# Altium footprint library ICfootprint3.PcbLib: 77 footprints (part 4 of 5)
Each footprint in its own frame and in the unit in brackets; x right, y up, seen from the top. Pads: shape width x height; smd on the part's side, far side on the other; paste and mask are expansions set on the pad; w line width, h text height; cw(c..) or ccw(c..) is an arc to the next point about the centre after c.
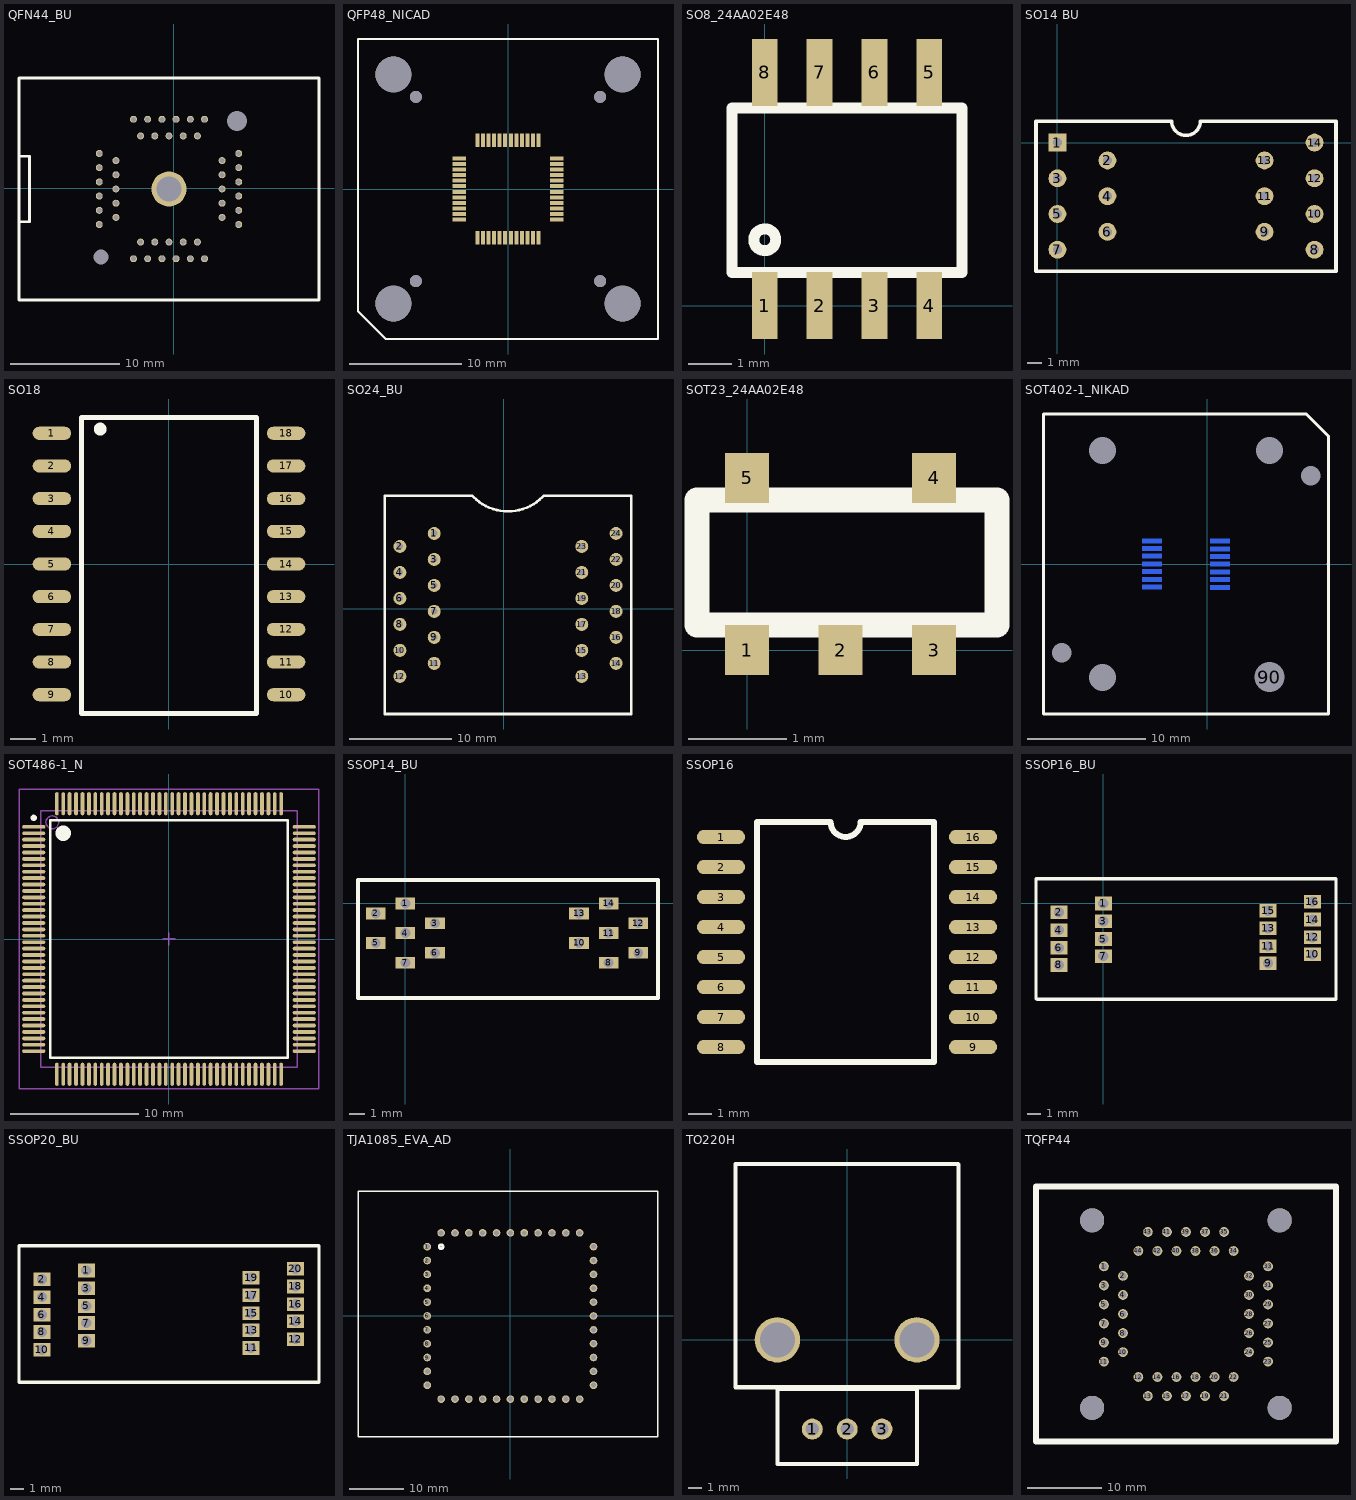
[diagram p3: the footprints below, top view; thin cyan lines are the x and y axes]

## QFN44_BU [mm] "QFN44 burn-in socket"
pads (47):
  round 0.635 hole 0.457: 1(-6.832,3.175) 2(-5.307,2.525) 3(-6.832,1.875) 4(-5.307,1.225) 5(-6.832,0.575) 6(-5.307,-0.075) 7(-6.832,-0.725) 8(-5.307,-1.375) 9(-6.832,-2.025) 10(-5.307,-2.675) 11(-6.832,-3.325) 12(-3.707,-6.45) 13(-3.057,-4.925) 14(-2.407,-6.45) 15(-1.757,-4.925) 16(-1.107,-6.45) 17(-0.457,-4.925) 18(0.193,-6.45) 19(0.843,-4.925) 20(1.493,-6.45) 21(2.143,-4.925) 22(2.793,-6.45) 23(5.918,-3.325) 24(4.393,-2.675) 25(5.918,-2.025) 26(4.393,-1.375) 27(5.918,-0.725) 28(4.393,-0.075) 29(5.918,0.575) 30(4.393,1.225) 31(5.918,1.875) 32(4.393,2.525) 33(5.918,3.175) 34(2.793,6.3) 35(2.143,4.775) 36(1.493,6.3) 37(0.843,4.775) 38(0.193,6.3) 39(-0.457,4.775) 40(-1.107,6.3) 41(-1.757,4.775) 42(-2.407,6.3) 43(-3.057,4.775) 44(-3.707,6.3)
  round 1 hole 1.4: ""(-6.682,-6.3)
  round 3.2 hole 2.26: ""(-0.457,-0.075)
  round 1 hole 1.8: ""(5.768,6.15)
Top Overlay:
  lines w0.254: -14.172,-3.075 -13.207,-3.075 -13.207,2.925 -14.172,2.925 ; -14.172,-10.235 13.258,-10.235 13.258,10.085 -14.172,10.085 -14.172,-10.235

## QFP48_NICAD [mm]
pads (56):
  rect 1.2x0.36 smd mask+0: 1(-4.35,2.75) 2(-4.35,2.25) 3(-4.35,1.75) 4(-4.35,1.25) 5(-4.35,0.75) 6(-4.35,0.25) 7(-4.35,-0.25) 8(-4.35,-0.75) 9(-4.35,-1.25) 10(-4.35,-1.75) 11(-4.35,-2.25) 12(-4.35,-2.75) 25(4.35,-2.75) 26(4.35,-2.25) 27(4.35,-1.75) 28(4.35,-1.25) 29(4.35,-0.75) 30(4.35,-0.25) 31(4.35,0.25) 32(4.35,0.75) 33(4.35,1.25) 34(4.35,1.75) 35(4.35,2.25) 36(4.35,2.75)
  rect 0.36x1.2 smd mask+0: 13(-2.75,-4.35) 14(-2.25,-4.35) 15(-1.75,-4.35) 16(-1.25,-4.35) 17(-0.75,-4.35) 18(-0.25,-4.35) 19(0.25,-4.35) 20(0.75,-4.35) 21(1.25,-4.35) 22(1.75,-4.35) 23(2.25,-4.35) 24(2.75,-4.35) 37(2.75,4.35) 38(2.25,4.35) 39(1.75,4.35) 40(1.25,4.35) 41(0.75,4.35) 42(0.25,4.35) 43(-0.25,4.35) 44(-0.75,4.35) 45(-1.25,4.35) 46(-1.75,4.35) 47(-2.25,4.35) 48(-2.75,4.35)
  round 3.2 hole 3.2 unplated mask+0: ""(-10.255,-10.255) ""(-10.255,10.255) ""(10.255,-10.255) ""(10.255,10.255)
  round 1.07 hole 1.07 unplated mask+0: ""(-8.255,-8.255) ""(-8.255,8.255) ""(8.255,-8.255) ""(8.255,8.255)
Top Overlay:
  lines w0.2: -13.43,-10.954 -10.954,-13.43 13.43,-13.43 13.43,13.43 -13.43,13.43 -13.43,-10.954

## SO8_24AA02E48 [mm] "2k EEPROM"
pads (8):
  rect 0.6x1.55 smd: 1(0,0) 2(1.27,0) 3(2.54,0) 4(3.81,0) 5(3.81,5.4) 6(2.54,5.4) 7(1.27,5.4) 8(0,5.4)
Top Overlay:
  circle w0.254: c0,1.524 r0.254
  lines w0.254: -0.762,0.762 4.572,0.762 4.572,4.572 -0.762,4.572 -0.762,0.762

## SO14 BU [mil] "SO14 burn-in socket"
pads (14):
  rect 50x50 hole 25: 1(0,0)
  round 50 hole 25: 2(140,-50) 3(0,-100) 4(140,-150) 5(0,-200) 6(140,-250) 7(0,-300) 8(720,-300) 9(580,-250) 10(720,-200) 11(580,-150) 12(720,-100) 13(580,-50) 14(720,0)
Top Overlay:
  lines w10: -60,-360 -60,40 -60,60 320,60 ccw(c360,60) 360,20 ccw(c360,60) 400,60 780,60 780,-360 -60,-360

## SO18 [mm] "SOIC, 18-Leads"
height 1.91
pads (18):
  oval 1.5x0.51 smd: 1(-4.55,5.08) 2(-4.55,3.81) 3(-4.55,2.54) 4(-4.55,1.27) 5(-4.55,0) 6(-4.55,-1.27) 7(-4.55,-2.54) 8(-4.55,-3.81) 9(-4.55,-5.08) 10(4.55,-5.08) 11(4.55,-3.81) 12(4.55,-2.54) 13(4.55,-1.27) 14(4.55,0) 15(4.55,1.27) 16(4.55,2.54) 17(4.55,3.81) 18(4.55,5.08)
Top Overlay:
  circle w0.25: c-2.675,5.243 r0.125
  lines w0.2: -3.4,-5.81 3.4,-5.81 ; -3.4,-5.8 -3.4,5.7 ; -3.4,5.69 3.4,5.69 ; 3.4,-5.8 3.4,5.7

## SO24_BU [mil] "SO24 burn-in socket"
pads (24):
  round 50 hole 25: 1(-268,290) 2(-400,240) 3(-268,190) 4(-400,140) 5(-268,90) 6(-400,40) 7(-268,-10) 8(-400,-60) 9(-268,-110) 10(-400,-160) 11(-268,-210) 12(-400,-260) 13(300,-260) 14(432,-210) 15(300,-160) 16(432,-110) 17(300,-60) 18(432,-10) 19(300,40) 20(432,90) 21(300,140) 22(432,190) 23(300,240) 24(432,290)
Top Overlay:
  lines w10: -459,-405 -459,435 -121.5,435 -116.5,430 ccw(c16,562.5) 148.5,430 153.5,435 491,435 491,-405 -459,-405

## SOT23_24AA02E48 [mm] "2k EEPROM"
pads (5):
  rect 0.45x0.51 smd mask+0.05: 1(0,0) 2(0.95,0) 3(1.9,0) 4(1.9,1.75) 5(0,1.75)
Top Overlay:
  lines w0.254: -0.508,0.254 2.54,0.254 2.54,1.524 -0.508,1.524 -0.508,0.254

## SOT402-1_NIKAD [mil]
pads (20):
  rect 65x15 smd far side: 1(44,76) 2(44,50.5) 3(44,24.9) 4(44,-0.7) 5(44,-26.3) 6(44,-51.9) 7(44,-77.5) 8(-184,-76.5) 9(-184,-50.9) 10(-184,-25.3) 11(-184,0.3) 12(-184,25.9) 13(-184,51.5) 14(-184,77)
  round 100 on Drill Drawing hole 100: 90(208,-377)
  round 100 on Drill Drawing hole 65: ""(-485,-295) ""(345,295)
  round 100 on Drill Drawing hole 90: ""(-348,-378) ""(-348,378) ""(208,378)
Top Overlay:
  lines w10: -545,462 -545,500 331,500 405,426 405,420 405,-500 -70,-500 -545,-500 -545,475 ; 404,0 405,1

## SOT486-1_N [mm] "Thin QFP, 144-Leads, Body 20x20mm, Pitch 0.5mm, IPC Medium Density"
height 1.6
pads (144):
  oval 1.8x0.3 smd: 1(-10.55,8.75) 2(-10.55,8.25) 3(-10.55,7.75) 4(-10.55,7.25) 5(-10.55,6.75) 6(-10.55,6.25) 7(-10.55,5.75) 8(-10.55,5.25) 9(-10.55,4.75) 10(-10.55,4.25) 11(-10.55,3.75) 12(-10.55,3.25) 13(-10.55,2.75) 14(-10.55,2.25) 15(-10.55,1.75) 16(-10.55,1.25) 17(-10.55,0.75) 18(-10.55,0.25) 19(-10.55,-0.25) 20(-10.55,-0.75) 21(-10.55,-1.25) 22(-10.55,-1.75) 23(-10.55,-2.25) 24(-10.55,-2.75) 25(-10.55,-3.25) 26(-10.55,-3.75) 27(-10.55,-4.25) 28(-10.55,-4.75) 29(-10.55,-5.25) 30(-10.55,-5.75) 31(-10.55,-6.25) 32(-10.55,-6.75) 33(-10.55,-7.25) 34(-10.55,-7.75) 35(-10.55,-8.25) 36(-10.55,-8.75) 73(10.55,-8.75) 74(10.55,-8.25) 75(10.55,-7.75) 76(10.55,-7.25) 77(10.55,-6.75) 78(10.55,-6.25) 79(10.55,-5.75) 80(10.55,-5.25) 81(10.55,-4.75) 82(10.55,-4.25) 83(10.55,-3.75) 84(10.55,-3.25) 85(10.55,-2.75) 86(10.55,-2.25) 87(10.55,-1.75) 88(10.55,-1.25) 89(10.55,-0.75) 90(10.55,-0.25) 91(10.55,0.25) 92(10.55,0.75) 93(10.55,1.25) 94(10.55,1.75) 95(10.55,2.25) 96(10.55,2.75) 97(10.55,3.25) 98(10.55,3.75) 99(10.55,4.25) 100(10.55,4.75) 101(10.55,5.25) 102(10.55,5.75) 103(10.55,6.25) 104(10.55,6.75) 105(10.55,7.25) 106(10.55,7.75) 107(10.55,8.25) 108(10.55,8.75)
  oval 0.3x1.8 smd: 37(-8.75,-10.55) 38(-8.25,-10.55) 39(-7.75,-10.55) 40(-7.25,-10.55) 41(-6.75,-10.55) 42(-6.25,-10.55) 43(-5.75,-10.55) 44(-5.25,-10.55) 45(-4.75,-10.55) 46(-4.25,-10.55) 47(-3.75,-10.55) 48(-3.25,-10.55) 49(-2.75,-10.55) 50(-2.25,-10.55) 51(-1.75,-10.55) 52(-1.25,-10.55) 53(-0.75,-10.55) 54(-0.25,-10.55) 55(0.25,-10.55) 56(0.75,-10.55) 57(1.25,-10.55) 58(1.75,-10.55) 59(2.25,-10.55) 60(2.75,-10.55) 61(3.25,-10.55) 62(3.75,-10.55) 63(4.25,-10.55) 64(4.75,-10.55) 65(5.25,-10.55) 66(5.75,-10.55) 67(6.25,-10.55) 68(6.75,-10.55) 69(7.25,-10.55) 70(7.75,-10.55) 71(8.25,-10.55) 72(8.75,-10.55) 109(8.75,10.55) 110(8.25,10.55) 111(7.75,10.55) 112(7.25,10.55) 113(6.75,10.55) 114(6.25,10.55) 115(5.75,10.55) 116(5.25,10.55) 117(4.75,10.55) 118(4.25,10.55) 119(3.75,10.55) 120(3.25,10.55) 121(2.75,10.55) 122(2.25,10.55) 123(1.75,10.55) 124(1.25,10.55) 125(0.75,10.55) 126(0.25,10.55) 127(-0.25,10.55) 128(-0.75,10.55) 129(-1.25,10.55) 130(-1.75,10.55) 131(-2.25,10.55) 132(-2.75,10.55) 133(-3.25,10.55) 134(-3.75,10.55) 135(-4.25,10.55) 136(-4.75,10.55) 137(-5.25,10.55) 138(-5.75,10.55) 139(-6.25,10.55) 140(-6.75,10.55) 141(-7.25,10.55) 142(-7.75,10.55) 143(-8.25,10.55) 144(-8.75,10.55)
Top Overlay:
  circle w0.6: c-8.25,8.25 r0.3
  circle w0.25: c-10.55,9.45 r0.125
  lines w0.2: -9.25,-9.25 9.25,-9.25 9.25,9.25 -9.25,9.25 -9.25,-9.25
Mechanical 13:
  circle w0.1: c-9.1,9.1 r0.5
  lines w0.1: -10,-10 10,-10 10,10 -10,10 -10,-10
Mechanical 15:
  lines w0.1: -0.5,0 0.5,0 ; 0,-0.5 0,0.5 ; -11.7,-11.7 11.7,-11.7 11.7,11.7 -11.7,11.7 -11.7,-11.7
3D body: height 1.6, standoff 0, extent -10,-10 10,10

## SSOP14_BU [mil] "SSOP14 burn-in socket"
pads (14):
  rect 50x30 hole 25: 1(0,0) 2(-75,-25) 3(75,-50) 4(0,-75) 5(-75,-100) 6(75,-125) 7(0,-150) 8(515,-150) 9(590,-125) 10(440,-100) 11(515,-75) 12(590,-50) 13(440,-25) 14(515,0)
Top Overlay:
  lines w10: -120,-240 -120,-200 -120,-100 -120,60 280,60 640,60 640,-240 -120,-240

## SSOP16 [mil]
pads (16):
  oval 80x24 smd: 1(25795,6180) 2(25795,6130) 3(25795,6080) 4(25795,6030) 5(25795,5980) 6(25795,5930) 7(25795,5880) 8(25795,5830) 9(26215,5830) 10(26215,5880) 11(26215,5930) 12(26215,5980) 13(26215,6030) 14(26215,6080) 15(26215,6130) 16(26215,6180)
Top Overlay:
  lines w10: 26027.64,6205 cw(c26002.64,6205) 25977.64,6205 25855,6205 25855,5805 26150.28,5805 26150.28,6205 26028.64,6205

## SSOP16_BU [mil]
pads (16):
  rect 50x40 hole 30: 1(0,0) 2(-130,-26) 3(0,-52) 4(-130,-78) 5(0,-104) 6(-130,-130) 7(0,-154) 8(-130,-180) 9(482,-175) 10(612,-149) 11(482,-125) 12(612,-99) 13(482,-73) 14(612,-47) 15(482,-21) 16(612,5)
Top Overlay:
  lines w10: -115,-280 680,-280 ; -100,-280 -182,-280 -194,-280 -197,-277 -197,72 -112,72 681,72 681,-279

## SSOP20_BU [mil] "SOP20 burn-in socket"
pads (20):
  rect 50x40 hole 30: 1(-1482,1227) 2(-1612,1201) 3(-1482,1175) 4(-1612,1149) 5(-1482,1123) 6(-1612,1097) 7(-1482,1073) 8(-1612,1047) 9(-1482,1021) 10(-1612,995) 11(-1000,1000) 12(-870,1026) 13(-1000,1052) 14(-870,1078) 15(-1000,1102) 16(-870,1128) 17(-1000,1154) 18(-870,1180) 19(-1000,1206) 20(-870,1232)
Top Overlay:
  lines w10: -1679,901 -1678,900 -1596,900 -801,900 -801,1299 -1594,1299 -1679,1299 -1679,901

## TJA1085_EVA_AD [mil] "Adapter connector for TJA1085 EVA daughterboard"
pads (44):
  round 55 hole 36 mask+0: 1(-600,500) 2(-600,400) 3(-600,300) 4(-600,200) 5(-600,100) 6(-600,0) 7(-600,-100) 8(-600,-200) 9(-600,-300) 10(-600,-400) 11(-600,-500) 12(-500,-600) 13(-400,-600) 14(-300,-600) 15(-200,-600) 16(-100,-600) 17(0,-600) 18(100,-600) 19(200,-600) 20(300,-600) 21(400,-600) 22(500,-600) 23(600,-500) 24(600,-400) 25(600,-300) 26(600,-200) 27(600,-100) 28(600,0) 29(600,100) 30(600,200) 31(600,300) 32(600,400) 33(600,500) 34(500,600) 35(400,600) 36(300,600) 37(200,600) 38(100,600) 39(0,600) 40(-100,600) 41(-200,600) 42(-300,600) 43(-400,600) 44(-500,600)
Top Overlay:
  circle w20: c-500,500 r14.14
  lines w10: -1100,-871.65 -1100,900 1065.35,900 1065.35,-871.65 -1100,-871.65

## TO220H [mil] "TO220 with headsink"
pads (5):
  round 60 hole 38: 1(-100,-256) 2(0,-256) 3(100,-256)
  round 130 hole 100: ""(-200,0) ""(200,0)
Top Overlay:
  lines w12: -200,-166 -200,-141 200,-141 200,-169 ; -200,-156 -200,-356 200,-356 200,-156 ; -200,-20 -200,0 ; 200,-20 200,0 ; -320,-136 -320,504 318,504 319,503 319,-136 -320,-136

## TQFP44 [mm]
pads (48):
  round 1.3 hole 0.9 mask+0.02: 1(-1280.94,-1263.65) 2(-1278.4,-1264.92) 3(-1280.94,-1266.19) 4(-1278.4,-1267.46) 5(-1280.94,-1268.73) 6(-1278.4,-1270) 7(-1280.94,-1271.27) 8(-1278.4,-1272.54) 9(-1280.94,-1273.81) 10(-1278.4,-1275.08) 11(-1280.94,-1276.35) 12(-1276.35,-1278.4) 13(-1275.08,-1280.94) 14(-1273.81,-1278.4) 15(-1272.54,-1280.94) 16(-1271.27,-1278.4) 17(-1270,-1280.94) 18(-1268.73,-1278.4) 19(-1267.46,-1280.94) 20(-1266.19,-1278.4) 21(-1264.92,-1280.94) 22(-1263.65,-1278.4) 23(-1259.06,-1276.35) 24(-1261.6,-1275.08) 25(-1259.06,-1273.81) 26(-1261.6,-1272.54) 27(-1259.06,-1271.27) 28(-1261.6,-1270) 29(-1259.06,-1268.73) 30(-1261.6,-1267.46) 31(-1259.06,-1266.19) 32(-1261.6,-1264.92) 33(-1259.06,-1263.65) 34(-1263.65,-1261.6) 35(-1264.92,-1259.06) 36(-1266.19,-1261.6) 37(-1267.46,-1259.06) 38(-1268.73,-1261.6) 39(-1270,-1259.06) 40(-1271.27,-1261.6) 41(-1272.54,-1259.06) 42(-1273.81,-1261.6) 43(-1275.08,-1259.06) 44(-1276.35,-1261.6)
  round 3.2 hole 3.2 mask+0.02: ""(-1282.5,-1282.5) ""(-1282.5,-1257.5) ""(-1257.5,-1282.5) ""(-1257.5,-1257.5)
Top Overlay:
  lines w0.762: -1290,-1287 -1250,-1287 -1250,-1253 -1290,-1253 -1290,-1287